# Altium schematic symbol library H7 100PIN 底板.SchLib: 1 symbol
Pins are listed as number, name and electrical type; pins without a type are passive.

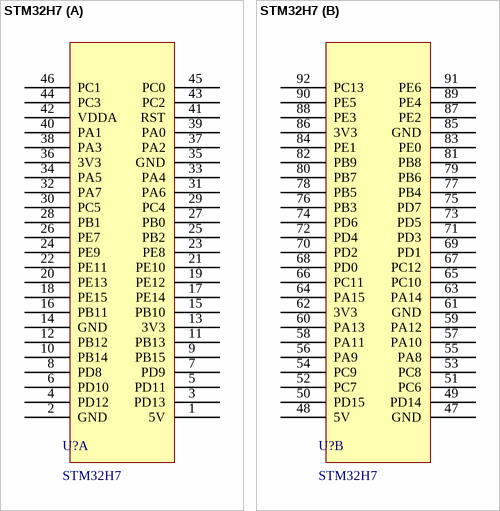
[diagram p0: symbol STM32H7]

## STM32H7
designator U?
part A pins: 1 5V, 2 GND, 3 PD13, 4 PD12, 5 PD11, 6 PD10, 7 PD9, 8 PD8, 9 PB15, 10 PB14, 11 PB13, 12 PB12, 13 3V3, 14 GND, 15 PB10, 16 PB11, 17 PE14, 18 PE15, 19 PE12, 20 PE13, 21 PE10, 22 PE11, 23 PE8, 24 PE9, 25 PB2, 26 PE7, 27 PB0, 28 PB1, 29 PC4, 30 PC5, 31 PA6, 32 PA7, 33 PA4, 34 PA5, 35 GND, 36 3V3, 37 PA2, 38 PA3, 39 PA0, 40 PA1, 41 RST, 42 VDDA, 43 PC2, 44 PC3, 45 PC0, 46 PC1
part B pins: 47 GND, 48 5V, 49 PD14, 50 PD15, 51 PC6, 52 PC7, 53 PC8, 54 PC9, 55 PA8, 56 PA9, 57 PA10, 58 PA11, 59 PA12, 60 PA13, 61 GND, 62 3V3, 63 PA14, 64 PA15, 65 PC10, 66 PC11, 67 PC12, 68 PD0, 69 PD1, 70 PD2, 71 PD3, 72 PD4, 73 PD5, 74 PD6, 75 PD7, 76 PB3, 77 PB4, 78 PB5, 79 PB6, 80 PB7, 81 PB8, 82 PB9, 83 PE0, 84 PE1, 85 GND, 86 3V3, 87 PE2, 88 PE3, 89 PE4, 90 PE5, 91 PE6, 92 PC13